# Altium footprint library SIP356W114P508L2230H2015Q4.PcbLib: 1 footprints
Each footprint in its own frame and in the unit in brackets; x right, y up, seen from the top. Pads: shape width x height; smd on the part's side, far side on the other; paste and mask are expansions set on the pad; w line width, h text height; cw(c..) or ccw(c..) is an arc to the next point about the centre after c.
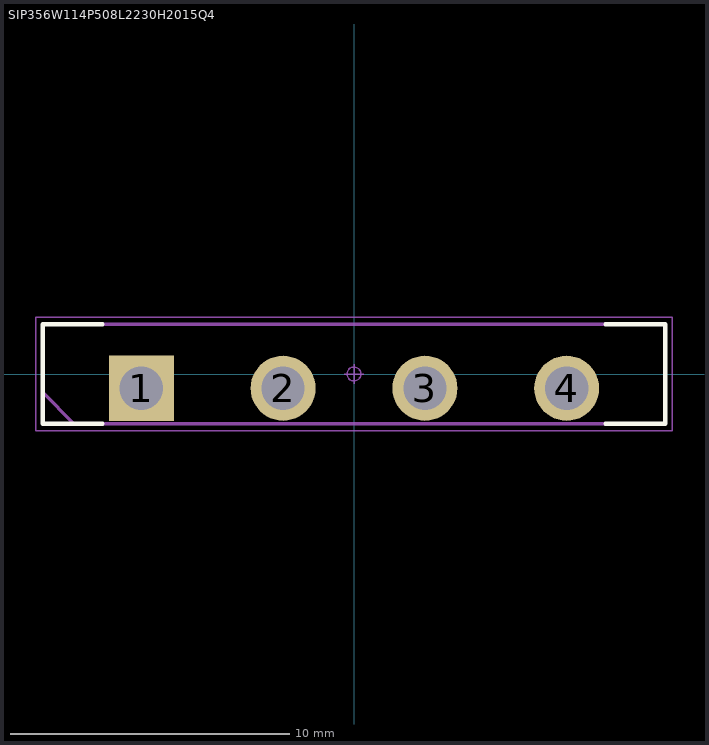
[diagram p0: the footprint, top view; thin cyan lines are the x and y axes]

## SIP356W114P508L2230H2015Q4 [mm] "SIP, 5.08 mm pitch; 4 pin, 22.30 mm L X 3.56 mm W X 20.15 mm H body"
height 20.15
pads (4):
  rect 2.33x2.33 / inner round 2.33 / far side rect 2.33x2.33 hole 1.55 paste-2.33: 1(-7.62,-0.51)
  round 2.33 hole 1.55 paste-2.33: 2(-2.54,-0.51) 3(2.54,-0.51) 4(7.62,-0.51)
Top Overlay:
  lines w0.15: -9.01,-1.78 -11.15,-1.78 -11.15,1.78 -9.01,1.78 ; 9.01,-1.78 11.15,-1.78 11.15,1.78 9.01,1.78
Mechanical 3:
  lines w0.12: -11.15,-0.661 -11.15,1.78 11.15,1.78 11.15,-1.778 -10.033,-1.778 -11.15,-0.661
Mechanical 5:
  lines w0.025: -8.255,-0.79 -8.255,-0.23 -6.985,-0.23 -6.985,-0.79 -8.255,-0.79 ; -3.175,-0.79 -3.175,-0.23 -1.905,-0.23 -1.905,-0.79 -3.175,-0.79 ; 1.905,-0.79 1.905,-0.23 3.175,-0.23 3.175,-0.79 1.905,-0.79 ; 6.985,-0.79 6.985,-0.23 8.255,-0.23 8.255,-0.79 6.985,-0.79
Mechanical 7:
  circle w0.05: c0,0 r0.25
  lines w0.025: -11.15,-1.78 11.15,-1.78 11.15,1.78 -11.15,1.78 -11.15,-1.78
  lines w0.05: -0.35,0 0.35,0 ; 0,-0.35 0,0.35 ; -11.4,-2.03 11.4,-2.03 11.4,2.03 -11.4,2.03 -11.4,-2.03
Mechanical 9:
  text ".Designator" at -4.572,3.175 h0.76
3D body "SIP356W114P508L2230H2015Q4.STEP": height 20.15, standoff -2, extent -11.15,-1.78 11.15,1.78